# Altium schematic symbol library Movandi_16.SchLib: 3 symbols
Pins are listed as number, name and electrical type; pins without a type are passive.

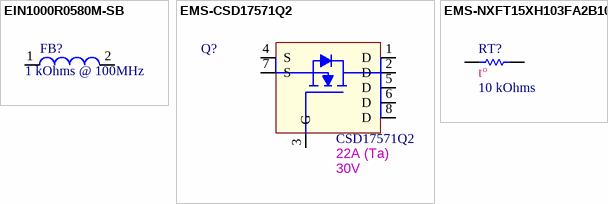
[diagram p0: symbols EIN1000R0580M-SB to EMS-NXFT15XH103FA2B100]

## EIN1000R0580M-SB
designator FB?, comment 1st Auxiliary Field: 1 kOhms @ 100MHz  (hidden comment: FERRITE BEAD 1 KOHM 0402 1LN)
Manufacturer Part Number: PE-0402FB102ST; Manufacturer: Pulse Electronics Network; Internal Part Number: EIN1000R0580M-SB; Vendor Part Number: 553-2372-1-ND; Component Height (mm): 0.65mm; 3rd Auxiliary Field: RoHS Compliant; 4th Auxiliary Field: 300mA; Temp Co: -40°C ~ 105°C; Vendor Name: Digi-Key; 2nd Auxiliary Field: 580mOhm; Value: PE-0402FB102ST; Part Type: FERRITE BEAD 1 KOHM 0402 1LN
footprint SMDL0402
pins: 1, 2
1 alternate drawing of the same symbol

## EMS-CSD17571Q2
designator Q?, comment value CSD17571Q2  1st Auxiliary Field: 30V  2nd Auxiliary Field: 22A (Ta)  (hidden comment: MOSFET N-CH 30V 22A 6SON)
Internal Part Number: EMS-CSD17571Q2; Manufacturer: Texas Instruments; Vendor Part Number: 296-37193-1-ND; Temp Co: -55°C ~ 150°C (TJ); 3rd Auxiliary Field: ROHS3 Compliant; Component Height (mm): 0.85mm; Vendor Name: Digi-Key; Part Type: MOSFET N-CH 30V 22A 6SON; 4th Auxiliary Field: *; Manufacturer Part Number: CSD17571Q2
footprint SON200X200-8N
pins: 1 D, 2 D, 3 G, 4 S, 5 D, 6 D, 7 S, 8 D
1 alternate drawing of the same symbol

## EMS-NXFT15XH103FA2B100
designator RT?, comment value 10 kOhms  4th Auxiliary Field: t°  (hidden comment: THERMISTOR NTC 10KOHM 3380K BEAD)  (mechanical)
Manufacturer Part Number: NXFT15XH103FA2B100; Manufacturer: Murata Electronics; Internal Part Number: EMS-NXFT15XH103FA2B100; Vendor Part Number: 490-5630-ND; 3rd Auxiliary Field: ROHS3 Compliant; Temp Co: -40°C ~ 125°C; Vendor Name: Digi-Key; 2nd Auxiliary Field: 1 %; Component Height (mm): *; Part Type: THERMISTOR NTC 10KOHM 3380K BEAD; 1st Auxiliary Field: NTC
pins: 1, 2